# Altium footprint library WR-TBL_Rising Cage Clamp_5.08mm.PcbLib: 81 footprints (part 5 of 6)
Each footprint in its own frame and in the unit in brackets; x right, y up, seen from the top. Pads: shape width x height; smd on the part's side, far side on the other; paste and mask are expansions set on the pad; w line width, h text height; cw(c..) or ccw(c..) is an arc to the next point about the centre after c.
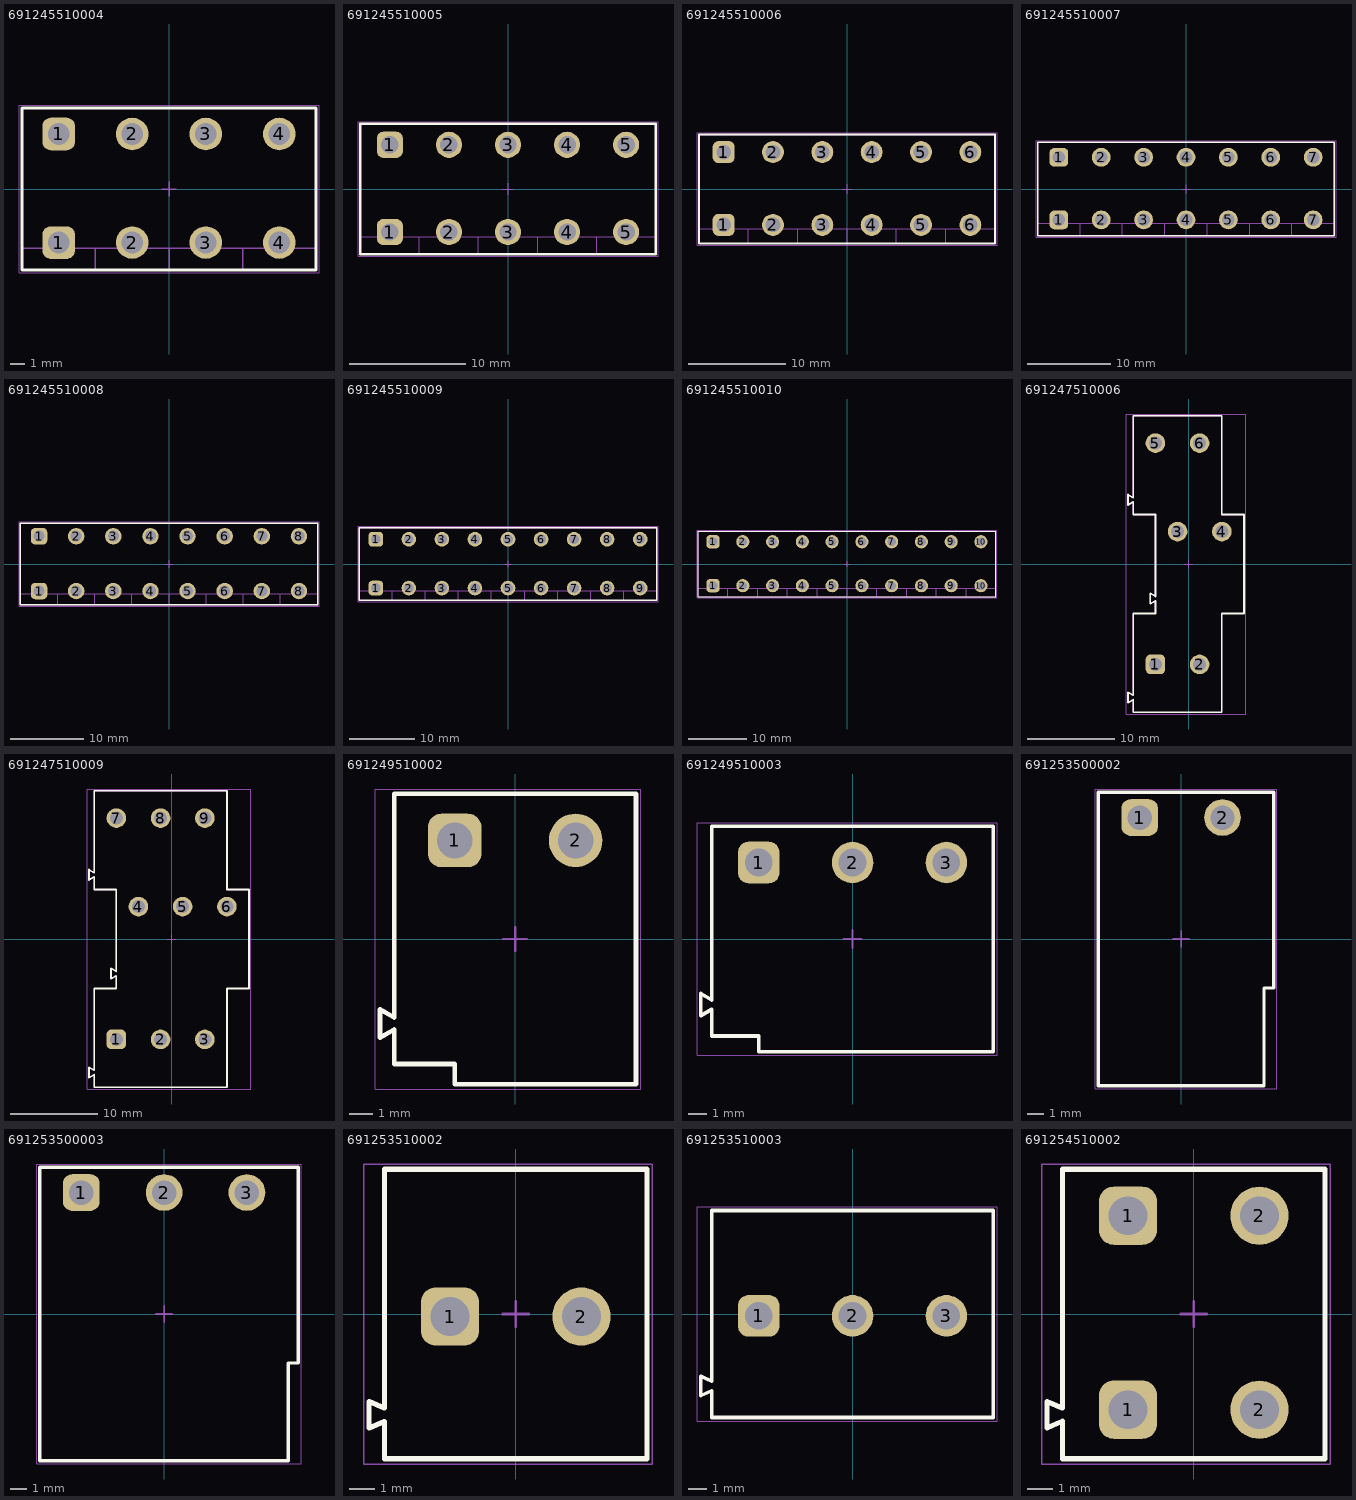
[diagram p4: the footprints below, top view; thin cyan lines are the x and y axes]

## 691245510004 [mm] "Serie 2455-5.08mm Horizontal Cable Entry with Rising Cage Clamp, 4 pins"
height 18
pads (8):
  rrect50% 2.25x2.25 hole 1.5: 1(-7.62,-3.7) 1(-7.62,3.8)
  round 2.25 hole 1.5: 2(-2.54,-3.7) 2(-2.54,3.8) 3(2.54,-3.7) 3(2.54,3.8) 4(7.62,-3.7) 4(7.62,3.8)
Top Overlay:
  lines w0.2: -10.16,-5.6 -10.16,5.6 10.16,5.6 10.16,-5.6 -10.16,-5.6
Top Assembly:
  lines w0.1: -10.16,-4.1 10.16,-4.1 ; -5.08,-5.6 -5.08,-4.1 ; 0,-5.6 0,-4.1 ; 5.08,-5.6 5.08,-4.1 ; -10.16,-5.6 10.16,-5.6 10.16,5.6 -10.16,5.6 -10.16,-5.6
Top Designator:
  text ".Designator" at -3.647,-0.357 h1
Top 3D Body:
  lines w0.1: -10.16,-4.1 10.16,-4.1 ; -5.08,-5.6 -5.08,-4.1 ; 0,-5.6 0,-4.1 ; 5.08,-5.6 5.08,-4.1 ; -10.16,-5.6 -10.16,5.6 10.16,5.6 10.16,-5.6 -10.16,-5.6
Top Courtyard:
  lines w0.05: -10.36,-5.8 -10.36,5.8 10.36,5.8 10.36,-5.8 -10.36,-5.8
Top Component Center:
  lines w0.1: -0.5,0 0.5,0 ; 0,-0.5 0,0.5
3D body "691245510004.stp": height 18.1, standoff -3.4, extent -10.16,-5.6 10.16,5.6

## 691245510005 [mm] "Serie 2455-5.08mm Horizontal Cable Entry with Rising Cage Clamp, 5 pins"
height 18
pads (10):
  rrect50% 2.25x2.25 hole 1.5: 1(-10.16,-3.7) 1(-10.16,3.8)
  round 2.25 hole 1.5: 2(-5.08,-3.7) 2(-5.08,3.8) 3(0,-3.7) 3(0,3.8) 4(5.08,-3.7) 4(5.08,3.8) 5(10.16,-3.7) 5(10.16,3.8)
Top Overlay:
  lines w0.2: -12.7,-5.6 -12.7,5.6 12.7,5.6 12.7,-5.6 -12.7,-5.6
Top Assembly:
  lines w0.1: -12.7,-4.1 12.7,-4.1 ; -7.62,-5.6 -7.62,-4.1 ; -2.54,-5.6 -2.54,-4.1 ; 2.54,-5.6 2.54,-4.1 ; 7.62,-5.6 7.62,-4.1 ; -12.7,-5.6 12.7,-5.6 12.7,5.6 -12.7,5.6 -12.7,-5.6
Top Designator:
  text ".Designator" at -3.647,-0.357 h1
Top 3D Body:
  lines w0.1: -12.7,-4.1 12.7,-4.1 ; -7.62,-5.6 -7.62,-4.1 ; -2.54,-5.6 -2.54,-4.1 ; 2.54,-5.6 2.54,-4.1 ; 7.62,-5.6 7.62,-4.1 ; -12.7,-5.6 -12.7,5.6 12.7,5.6 12.7,-5.6 -12.7,-5.6
Top Courtyard:
  lines w0.05: -12.9,-5.8 -12.9,5.8 12.9,5.8 12.9,-5.8 -12.9,-5.8
Top Component Center:
  lines w0.1: -0.5,0 0.5,0 ; 0,-0.5 0,0.5
3D body "691245510005.stp": height 18.1, standoff -3.4, extent -12.7,-5.6 12.7,5.6

## 691245510006 [mm] "Serie 2455-5.08mm Horizontal Cable Entry with Rising Cage Clamp, 6 pins"
height 18
pads (12):
  rrect50% 2.25x2.25 hole 1.5: 1(-12.7,-3.7) 1(-12.7,3.8)
  round 2.25 hole 1.5: 2(-7.62,-3.7) 2(-7.62,3.8) 3(-2.54,-3.7) 3(-2.54,3.8) 4(2.54,-3.7) 4(2.54,3.8) 5(7.62,-3.7) 5(7.62,3.8) 6(12.7,-3.7) 6(12.7,3.8)
Top Overlay:
  lines w0.2: -15.24,-5.6 15.24,-5.6 15.24,5.6 -15.24,5.6 -15.24,-5.6
Top Assembly:
  lines w0.1: -15.24,-4.1 15.24,-4.1 ; -10.16,-5.6 -10.16,-4.1 ; -5.08,-5.6 -5.08,-4.1 ; 0,-5.6 0,-4.1 ; 5.08,-5.6 5.08,-4.1 ; 10.16,-5.6 10.16,-4.1 ; -15.24,-5.6 -15.24,5.6 15.24,5.6 15.24,-5.6 -15.24,-5.6
Top Designator:
  text ".Designator" at -3.647,-0.357 h1
Top 3D Body:
  lines w0.1: -15.24,-4.1 15.24,-4.1 ; -10.16,-5.6 -10.16,-4.1 ; -5.08,-5.6 -5.08,-4.1 ; 0,-5.6 0,-4.1 ; 5.08,-5.6 5.08,-4.1 ; 10.16,-5.6 10.16,-4.1 ; -15.24,-5.6 15.24,-5.6 15.24,5.6 -15.24,5.6 -15.24,-5.6
Top Courtyard:
  lines w0.05: -15.44,-5.8 15.44,-5.8 15.44,5.8 -15.44,5.8 -15.44,-5.8
Top Component Center:
  lines w0.1: -0.5,0 0.5,0 ; 0,-0.5 0,0.5
3D body "691245510006.stp": height 18.1, standoff -3.4, extent -15.24,-5.6 15.24,5.6

## 691245510007 [mm] "Serie 2455-5.08mm Horizontal Cable Entry with Rising Cage Clamp, 7 pins"
height 18
pads (14):
  rrect50% 2.25x2.25 hole 1.5: 1(-15.24,-3.7) 1(-15.24,3.8)
  round 2.25 hole 1.5: 2(-10.16,-3.7) 2(-10.16,3.8) 3(-5.08,-3.7) 3(-5.08,3.8) 4(0,-3.7) 4(0,3.8) 5(5.08,-3.7) 5(5.08,3.8) 6(10.16,-3.7) 6(10.16,3.8) 7(15.24,-3.7) 7(15.24,3.8)
Top Overlay:
  lines w0.2: -17.78,-5.6 -17.78,5.6 17.78,5.6 17.78,-5.6 -17.78,-5.6
Top Assembly:
  lines w0.1: -17.78,-4.1 17.78,-4.1 ; -12.7,-5.6 -12.7,-4.1 ; -7.62,-5.6 -7.62,-4.1 ; -2.54,-5.6 -2.54,-4.1 ; 2.54,-5.6 2.54,-4.1 ; 7.62,-5.6 7.62,-4.1 ; 12.7,-5.6 12.7,-4.1 ; -17.78,-5.6 17.78,-5.6 17.78,5.6 -17.78,5.6 -17.78,-5.6
Top Designator:
  text ".Designator" at -3.647,-0.357 h1
Top 3D Body:
  lines w0.1: -17.78,-4.1 17.78,-4.1 ; -12.7,-5.6 -12.7,-4.1 ; -7.62,-5.6 -7.62,-4.1 ; -2.54,-5.6 -2.54,-4.1 ; 2.54,-5.6 2.54,-4.1 ; 7.62,-5.6 7.62,-4.1 ; 12.7,-5.6 12.7,-4.1 ; -17.78,-5.6 -17.78,5.6 17.78,5.6 17.78,-5.6 -17.78,-5.6
Top Courtyard:
  lines w0.05: -17.98,-5.8 -17.98,5.8 17.98,5.8 17.98,-5.8 -17.98,-5.8
Top Component Center:
  lines w0.1: -0.5,0 0.5,0 ; 0,-0.5 0,0.5
3D body "691245510007.stp": height 18.1, standoff -3.4, extent -17.78,-5.6 17.78,5.6

## 691245510008 [mm] "Serie 2455-5.08mm Horizontal Cable Entry with Rising Cage Clamp, 8 pins"
height 18
pads (16):
  rrect50% 2.25x2.25 hole 1.5: 1(-17.78,-3.7) 1(-17.78,3.8)
  round 2.25 hole 1.5: 2(-12.7,-3.7) 2(-12.7,3.8) 3(-7.62,-3.7) 3(-7.62,3.8) 4(-2.54,-3.7) 4(-2.54,3.8) 5(2.54,-3.7) 5(2.54,3.8) 6(7.62,-3.7) 6(7.62,3.8) 7(12.7,-3.7) 7(12.7,3.8) 8(17.78,-3.7) 8(17.78,3.8)
Top Overlay:
  lines w0.2: -20.32,-5.6 20.32,-5.6 20.32,5.6 -20.32,5.6 -20.32,-5.6
Top Assembly:
  lines w0.1: -20.32,-4.1 20.32,-4.1 ; -15.24,-5.6 -15.24,-4.1 ; -10.16,-5.6 -10.16,-4.1 ; -5.08,-5.6 -5.08,-4.1 ; 0,-5.6 0,-4.1 ; 5.08,-5.6 5.08,-4.1 ; 10.16,-5.6 10.16,-4.1 ; 15.24,-5.6 15.24,-4.1 ; -20.32,-5.6 -20.32,5.6 20.32,5.6 20.32,-5.6 -20.32,-5.6
Top Designator:
  text ".Designator" at -3.647,-0.357 h1
Top 3D Body:
  lines w0.1: -20.32,-4.1 20.32,-4.1 ; -15.24,-5.6 -15.24,-4.1 ; -10.16,-5.6 -10.16,-4.1 ; -5.08,-5.6 -5.08,-4.1 ; 0,-5.6 0,-4.1 ; 5.08,-5.6 5.08,-4.1 ; 10.16,-5.6 10.16,-4.1 ; 15.24,-5.6 15.24,-4.1 ; -20.32,-5.6 20.32,-5.6 20.32,5.6 -20.32,5.6 -20.32,-5.6
Top Courtyard:
  lines w0.05: -20.52,-5.8 20.52,-5.8 20.52,5.8 -20.52,5.8 -20.52,-5.8
Top Component Center:
  lines w0.1: -0.5,0 0.5,0 ; 0,-0.5 0,0.5
3D body "691245510008.stp": height 18.1, standoff -3.4, extent -20.32,-5.6 20.32,5.6

## 691245510009 [mm] "Serie 2455-5.08mm Horizontal Cable Entry with Rising Cage Clamp, 9 pins"
height 18
pads (18):
  rrect50% 2.25x2.25 hole 1.5: 1(-20.32,-3.7) 1(-20.32,3.8)
  round 2.25 hole 1.5: 2(-15.24,-3.7) 2(-15.24,3.8) 3(-10.16,-3.7) 3(-10.16,3.8) 4(-5.08,-3.7) 4(-5.08,3.8) 5(0,-3.7) 5(0,3.8) 6(5.08,-3.7) 6(5.08,3.8) 7(10.16,-3.7) 7(10.16,3.8) 8(15.24,-3.7) 8(15.24,3.8) 9(20.32,-3.7) 9(20.32,3.8)
Top Overlay:
  lines w0.2: -22.86,-5.6 -22.86,5.6 22.86,5.6 22.86,-5.6 -22.86,-5.6
Top Assembly:
  lines w0.1: -22.86,-4.1 22.86,-4.1 ; -17.78,-5.6 -17.78,-4.1 ; -12.7,-5.6 -12.7,-4.1 ; -7.62,-5.6 -7.62,-4.1 ; -2.54,-5.6 -2.54,-4.1 ; 2.54,-5.6 2.54,-4.1 ; 7.62,-5.6 7.62,-4.1 ; 12.7,-5.6 12.7,-4.1 ; 17.78,-5.6 17.78,-4.1 ; -22.86,-5.6 22.86,-5.6 22.86,5.6 -22.86,5.6 -22.86,-5.6
Top Designator:
  text ".Designator" at -3.647,-0.357 h1
Top 3D Body:
  lines w0.1: -22.86,-4.1 22.86,-4.1 ; -17.78,-5.6 -17.78,-4.1 ; -12.7,-5.6 -12.7,-4.1 ; -7.62,-5.6 -7.62,-4.1 ; -2.54,-5.6 -2.54,-4.1 ; 2.54,-5.6 2.54,-4.1 ; 7.62,-5.6 7.62,-4.1 ; 12.7,-5.6 12.7,-4.1 ; 17.78,-5.6 17.78,-4.1 ; -22.86,-5.6 -22.86,5.6 22.86,5.6 22.86,-5.6 -22.86,-5.6
Top Courtyard:
  lines w0.05: -23.06,-5.8 -23.06,5.8 23.06,5.8 23.06,-5.8 -23.06,-5.8
Top Component Center:
  lines w0.1: -0.5,0 0.5,0 ; 0,-0.5 0,0.5
3D body "691245510009.stp": height 18.1, standoff -3.4, extent -22.86,-5.6 22.86,5.6

## 691245510010 [mm] "Serie 2455-5.08mm Horizontal Cable Entry with Rising Cage Clamp, 10 pins"
height 18
pads (20):
  rrect50% 2.25x2.25 hole 1.5: 1(-22.86,-3.7) 1(-22.86,3.8)
  round 2.25 hole 1.5: 2(-17.78,-3.7) 2(-17.78,3.8) 3(-12.7,-3.7) 3(-12.7,3.8) 4(-7.62,-3.7) 4(-7.62,3.8) 5(-2.54,-3.7) 5(-2.54,3.8) 6(2.54,-3.7) 6(2.54,3.8) 7(7.62,-3.7) 7(7.62,3.8) 8(12.7,-3.7) 8(12.7,3.8) 9(17.78,-3.7) 9(17.78,3.8) 10(22.86,-3.7) 10(22.86,3.8)
Top Overlay:
  lines w0.2: -25.4,-5.6 25.4,-5.6 25.4,5.6 -25.4,5.6 -25.4,-5.6
Top Assembly:
  lines w0.1: -25.4,-4.1 25.4,-4.1 ; -20.32,-5.6 -20.32,-4.1 ; -15.24,-5.6 -15.24,-4.1 ; -10.16,-5.6 -10.16,-4.1 ; -5.08,-5.6 -5.08,-4.1 ; 0,-5.6 0,-4.1 ; 5.08,-5.6 5.08,-4.1 ; 10.16,-5.6 10.16,-4.1 ; 15.24,-5.6 15.24,-4.1 ; 20.32,-5.6 20.32,-4.1 ; -25.4,-5.6 -25.4,5.6 25.4,5.6 25.4,-5.6 -25.4,-5.6
Top Designator:
  text ".Designator" at -3.647,-0.357 h1
Top 3D Body:
  lines w0.1: -25.4,-4.1 25.4,-4.1 ; -20.32,-5.6 -20.32,-4.1 ; -15.24,-5.6 -15.24,-4.1 ; -10.16,-5.6 -10.16,-4.1 ; -5.08,-5.6 -5.08,-4.1 ; 0,-5.6 0,-4.1 ; 5.08,-5.6 5.08,-4.1 ; 10.16,-5.6 10.16,-4.1 ; 15.24,-5.6 15.24,-4.1 ; 20.32,-5.6 20.32,-4.1 ; -25.4,-5.6 25.4,-5.6 25.4,5.6 -25.4,5.6 -25.4,-5.6
Top Courtyard:
  lines w0.05: -25.6,-5.8 25.6,-5.8 25.6,5.8 -25.6,5.8 -25.6,-5.8
Top Component Center:
  lines w0.1: -0.5,0 0.5,0 ; 0,-0.5 0,0.5
3D body "691245510010.stp": height 18.1, standoff -3.4, extent -25.4,-5.6 25.4,5.6

## 691247510006 [mm] "5.08mm Horizontal Cable Entry with Rising Cage Clamp, 06p"
height 45
pads (6):
  rrect50% 2.25x2.25 hole 1.5: 1(-3.81,-11.525)
  round 2.25 hole 1.5: 2(1.27,-11.525) 3(-1.27,3.715) 4(3.81,3.715) 5(-3.81,13.875) 6(1.27,13.875)
Top Overlay:
  lines w0.2: -6.352,-15.572 -6.95,-15.925 -6.95,-14.725 -6.352,-15.078 ; -6.352,7.128 -6.95,6.775 -6.95,7.975 -6.352,7.622 ; -6.35,-15.575 -6.35,-17.025 3.81,-17.025 3.81,-5.675 6.35,-5.675 6.35,5.675 3.81,5.675 3.81,17.025 -6.35,17.025 -6.35,7.624 ; -6.35,-15.076 -6.35,-5.675 -3.81,-5.675 -3.81,-4.225 ; -6.35,7.125 -6.35,5.675 -3.81,5.675 -3.81,-3.726 ; -3.812,-4.222 -4.41,-4.575 -4.41,-3.375 -3.812,-3.728
Top Assembly:
  lines w0.1: -6.352,-15.572 -6.95,-15.925 -6.95,-14.725 -6.352,-15.078 ; -6.352,7.128 -6.95,6.775 -6.95,7.975 -6.352,7.622 ; -6.35,-15.575 -6.35,-17.025 3.81,-17.025 3.81,-5.675 6.35,-5.675 6.35,5.675 3.81,5.675 3.81,17.025 -6.35,17.025 -6.35,7.624 ; -6.35,-15.076 -6.35,-5.675 -3.81,-5.675 -3.81,-4.225 ; -6.35,7.125 -6.35,5.675 -3.81,5.675 -3.81,-3.726 ; -3.812,-4.222 -4.41,-4.575 -4.41,-3.375 -3.812,-3.728
Top Designator:
  text ".Designator" at -3.647,-0.357 h1
Top 3D Body:
  lines w0.1: -6.352,-15.572 -6.95,-15.925 -6.95,-14.725 -6.352,-15.078 ; -6.352,7.128 -6.95,6.775 -6.95,7.975 -6.352,7.622 ; -6.35,-15.575 -6.35,-17.025 3.81,-17.025 3.81,-5.675 6.35,-5.675 6.35,5.675 3.81,5.675 3.81,17.025 -6.35,17.025 -6.35,7.624 ; -6.35,-15.076 -6.35,-5.675 -3.81,-5.675 -3.81,-4.225 ; -6.35,7.125 -6.35,5.675 -3.81,5.675 -3.81,-3.726 ; -3.812,-4.222 -4.41,-4.575 -4.41,-3.375 -3.812,-3.728
Top Courtyard:
  lines w0.05: -7.15,-17.225 -7.15,17.225 6.55,17.225 6.55,-17.225 -7.15,-17.225
Top Component Center:
  lines w0.1: -0.5,0 0.5,0 ; 0,-0.5 0,0.5
3D body "691247510006.stp": height 45.1, standoff -3.9, extent -6.95,-17.025 6.35,17.025

## 691247510009 [mm] "5.08mm Horizontal Cable Entry with Rising Cage Clamp, 09p"
height 45
pads (9):
  rrect50% 2.25x2.25 hole 1.5: 1(-6.35,-11.525)
  round 2.25 hole 1.5: 2(-1.27,-11.525) 3(3.81,-11.525) 4(-3.81,3.715) 5(1.27,3.715) 6(6.35,3.715) 7(-6.35,13.875) 8(-1.27,13.875) 9(3.81,13.875)
Top Overlay:
  lines w0.2: -8.892,-15.572 -9.49,-15.925 -9.49,-14.725 -8.892,-15.078 ; -8.892,7.128 -9.49,6.775 -9.49,7.975 -8.892,7.622 ; -8.89,-15.575 -8.89,-17.025 6.35,-17.025 6.35,-5.675 8.89,-5.675 8.89,5.675 6.35,5.675 6.35,17.025 -8.89,17.025 -8.89,7.624 ; -8.89,-15.076 -8.89,-5.675 -6.35,-5.675 -6.35,-4.225 ; -8.89,7.125 -8.89,5.675 -6.35,5.675 -6.35,-3.726 ; -6.352,-4.222 -6.95,-4.575 -6.95,-3.375 -6.352,-3.728
Top Assembly:
  lines w0.1: -8.892,-15.572 -9.49,-15.925 -9.49,-14.725 -8.892,-15.078 ; -8.892,7.128 -9.49,6.775 -9.49,7.975 -8.892,7.622 ; -8.89,-15.575 -8.89,-17.025 6.35,-17.025 6.35,-5.675 8.89,-5.675 8.89,5.675 6.35,5.675 6.35,17.025 -8.89,17.025 -8.89,7.624 ; -8.89,-15.076 -8.89,-5.675 -6.35,-5.675 -6.35,-4.225 ; -8.89,7.125 -8.89,5.675 -6.35,5.675 -6.35,-3.726 ; -6.352,-4.222 -6.95,-4.575 -6.95,-3.375 -6.352,-3.728
Top Designator:
  text ".Designator" at -3.647,-0.357 h1
Top 3D Body:
  lines w0.1: -8.892,-15.572 -9.49,-15.925 -9.49,-14.725 -8.892,-15.078 ; -8.892,7.128 -9.49,6.775 -9.49,7.975 -8.892,7.622 ; -8.89,-15.575 -8.89,-17.025 6.35,-17.025 6.35,-5.675 8.89,-5.675 8.89,5.675 6.35,5.675 6.35,17.025 -8.89,17.025 -8.89,7.624 ; -8.89,-15.076 -8.89,-5.675 -6.35,-5.675 -6.35,-4.225 ; -8.89,7.125 -8.89,5.675 -6.35,5.675 -6.35,-3.726 ; -6.352,-4.222 -6.95,-4.575 -6.95,-3.375 -6.352,-3.728
Top Courtyard:
  lines w0.05: -9.69,-17.225 9.09,-17.225 9.09,17.225 -9.69,17.225 -9.69,-17.225
Top Component Center:
  lines w0.1: -0.5,0 0.5,0 ; 0,-0.5 0,0.5
3D body "691247510009.stp": height 45.1, standoff -3.9, extent -9.49,-17.025 8.89,17.025

## 691249510002 [mm] "5.08mm Horizontal Cable Entry with Rising Cage Clamp, 02p"
height 31.5
pads (2):
  rrect50% 2.25x2.25 hole 1.5: 1(-2.54,4.14)
  round 2.25 hole 1.5: 2(2.54,4.14)
Top Overlay:
  lines w0.2: -5.081,-3.798 -5.68,-4.15 -5.68,-2.95 -5.081,-3.302 ; -5.08,-3.8 -5.08,-5.25 -2.54,-5.25 -2.54,-6.1 5.08,-6.1 5.08,6.1 -5.08,6.1 -5.08,-3.301
Top Assembly:
  lines w0.1: -5.081,-3.798 -5.68,-4.15 -5.68,-2.95 -5.081,-3.302 ; -5.08,-3.8 -5.08,-5.25 -2.54,-5.25 -2.54,-6.1 5.08,-6.1 5.08,6.1 -5.08,6.1 -5.08,-3.301
Top Designator:
  text ".Designator" at -3.647,-0.357 h1
Top 3D Body:
  lines w0.1: -5.081,-3.798 -5.68,-4.15 -5.68,-2.95 -5.081,-3.302 ; -5.08,-3.8 -5.08,-5.25 -2.54,-5.25 -2.54,-6.1 5.08,-6.1 5.08,6.1 -5.08,6.1 -5.08,-3.301
Top Courtyard:
  lines w0.05: -5.88,-6.3 5.28,-6.3 5.28,6.3 -5.88,6.3 -5.88,-6.3
Top Component Center:
  lines w0.1: -0.5,0 0.5,0 ; 0,-0.5 0,0.5
3D body "691249510002.stp": height 31.6, standoff -3.9, extent -5.68,-6.1 5.08,6.1

## 691249510003 [mm] "5.08mm Horizontal Cable Entry with Rising Cage Clamp, 03p"
height 31.5
pads (3):
  rrect50% 2.25x2.25 hole 1.5: 1(-5.08,4.14)
  round 2.25 hole 1.5: 2(0,4.14) 3(5.08,4.14)
Top Overlay:
  lines w0.2: -7.621,-3.798 -8.22,-4.15 -8.22,-2.95 -7.621,-3.302 ; -7.62,-3.8 -7.62,-5.25 -5.08,-5.25 -5.08,-6.1 7.62,-6.1 7.62,6.1 -7.62,6.1 -7.62,-3.301
Top Assembly:
  lines w0.1: -7.621,-3.798 -8.22,-4.15 -8.22,-2.95 -7.621,-3.302 ; -7.62,-3.8 -7.62,-5.25 -5.08,-5.25 -5.08,-6.1 7.62,-6.1 7.62,6.1 -7.62,6.1 -7.62,-3.301
Top Designator:
  text ".Designator" at -3.647,-0.357 h1
Top 3D Body:
  lines w0.1: -7.621,-3.798 -8.22,-4.15 -8.22,-2.95 -7.621,-3.302 ; -7.62,-3.8 -7.62,-5.25 -5.08,-5.25 -5.08,-6.1 7.62,-6.1 7.62,6.1 -7.62,6.1 -7.62,-3.301
Top Courtyard:
  lines w0.05: -8.42,-6.3 7.82,-6.3 7.82,6.3 -8.42,6.3 -8.42,-6.3
Top Component Center:
  lines w0.1: -0.5,0 0.5,0 ; 0,-0.5 0,0.5
3D body "691249510003.stp": height 31.6, standoff -3.9, extent -8.22,-6.1 7.62,6.1

## 691253500002 [mm] "Serie 2535 - 5.08 mm _ 2 pins"
height 11.2
pads (2):
  rrect50% 2.25x2.25 hole 1.5: 1(-2.54,7.45)
  round 2.25 hole 1.5: 2(2.54,7.45)
Top Overlay:
  lines w0.2: -5.08,-9 5.08,-9 5.08,-3 5.68,-3 5.68,9 -5.08,9 -5.08,-9
Top Assembly:
  lines w0.1: -5.08,-9 -5.08,9 5.68,9 5.68,-3 5.08,-3 5.08,-9 -5.08,-9
Top Designator:
  text ".Designator" at -3.647,-0.357 h1
Top 3D Body:
  lines w0.1: -5.08,-9 5.08,-9 5.08,-3 5.68,-3 5.68,9 -5.08,9 -5.08,-9
Top Courtyard:
  lines w0.05: -5.28,-9.2 -5.28,9.2 5.88,9.2 5.88,-9.2 -5.28,-9.2
Top Component Center:
  lines w0.1: -0.5,0 0.5,0 ; 0,-0.5 0,0.5
3D body "691253500002.stp": height 11.35, standoff -3.85, extent -5.06,-9.05 5.7,8.95

## 691253500003 [mm] "Serie 2535 - 5.08 mm _ 3 pins"
height 11.2
pads (3):
  rrect50% 2.25x2.25 hole 1.5: 1(-5.08,7.45)
  round 2.25 hole 1.5: 2(0,7.45) 3(5.08,7.45)
Top Overlay:
  lines w0.2: -7.62,-9 7.62,-9 7.62,-3 8.22,-3 8.22,9 -7.62,9 -7.62,-9
Top Assembly:
  lines w0.1: -7.62,-9 -7.62,9 8.22,9 8.22,-3 7.62,-3 7.62,-9 -7.62,-9
Top Designator:
  text ".Designator" at -3.647,-0.357 h1
Top 3D Body:
  lines w0.1: -7.62,-9 7.62,-9 7.62,-3 8.22,-3 8.22,9 -7.62,9 -7.62,-9
Top Courtyard:
  lines w0.05: -7.82,-9.2 -7.82,9.2 8.42,9.2 8.42,-9.2 -7.82,-9.2
Top Component Center:
  lines w0.1: -0.5,0 0.5,0 ; 0,-0.5 0,0.5
3D body "691253500003.stp": height 11.35, standoff -3.85, extent -7.6,-9.05 8.24,8.95

## 691253510002 [mm] "Serie 2535 - 5.08 mm _ 2 pins"
height 18
pads (2):
  rrect50% 2.25x2.25 hole 1.5: 1(-2.54,-0.1)
  round 2.25 hole 1.5: 2(2.54,-0.1)
Top Overlay:
  lines w0.2: -5.67,-4.41 -5.08,-4.154 -5.08,-5.6 5.08,-5.6 5.08,5.6 -5.08,5.6 -5.08,-3.636 -5.67,-3.38 -5.67,-4.41
Top Assembly:
  lines w0.1: -5.67,-4.41 -5.67,-3.38 -5.08,-3.636 -5.08,5.6 5.08,5.6 5.08,-5.6 -5.08,-5.6 -5.08,-4.154 -5.67,-4.41
Top Designator:
  text ".Designator" at -3.647,-0.357 h1
Top 3D Body:
  lines w0.1: -5.67,-4.41 -5.08,-4.154 -5.08,-5.6 5.08,-5.6 5.08,5.6 -5.08,5.6 -5.08,-3.636 -5.67,-3.38 -5.67,-4.41
Top Courtyard:
  lines w0.05: -5.88,-5.8 -5.88,5.8 5.28,5.8 5.28,-5.8 -5.88,-5.8
Top Component Center:
  lines w0.1: -0.5,0 0.5,0 ; 0,-0.5 0,0.5
3D body "691253510002.stp": height 18.1, standoff -3.9, extent -5.67,-5.6 5.09,5.6

## 691253510003 [mm] "Serie 2535 - 5.08 mm _ 3 pins"
height 18
pads (3):
  rrect50% 2.25x2.25 hole 1.5: 1(-5.08,-0.1)
  round 2.25 hole 1.5: 2(0,-0.1) 3(5.08,-0.1)
Top Overlay:
  lines w0.2: -8.21,-4.41 -7.62,-4.154 -7.62,-5.6 7.62,-5.6 7.62,5.6 -7.62,5.6 -7.62,-3.636 -8.21,-3.38 -8.21,-4.41
Top Assembly:
  lines w0.1: -8.21,-4.41 -8.21,-3.38 -7.62,-3.636 -7.62,5.6 7.62,5.6 7.62,-5.6 -7.62,-5.6 -7.62,-4.154 -8.21,-4.41
Top Designator:
  text ".Designator" at -3.647,-0.357 h1
Top 3D Body:
  lines w0.1: -8.21,-4.41 -7.62,-4.154 -7.62,-5.6 7.62,-5.6 7.62,5.6 -7.62,5.6 -7.62,-3.636 -8.21,-3.38 -8.21,-4.41
Top Courtyard:
  lines w0.05: -8.42,-5.8 -8.42,5.8 7.82,5.8 7.82,-5.8 -8.42,-5.8
Top Component Center:
  lines w0.1: -0.5,0 0.5,0 ; 0,-0.5 0,0.5
3D body "691253510003.stp": height 18.1, standoff -3.9, extent -8.21,-5.6 7.63,5.6

## 691254510002 [mm] "Serie 2545-5.08mm Horizontal Cable Entry with Rising Cage Clamp, 2 pins"
height 18
pads (4):
  rrect50% 2.25x2.25 hole 1.5: 1(-2.54,-3.7) 1(-2.54,3.8)
  round 2.25 hole 1.5: 2(2.54,-3.7) 2(2.54,3.8)
Top Overlay:
  lines w0.2: -5.08,-5.6 -5.08,-4.15 -5.68,-4.41 -5.68,-3.38 -5.08,-3.64 -5.08,5.6 5.08,5.6 5.08,-5.6 -5.08,-5.6
Top Assembly:
  lines w0.1: -5.08,-5.6 -5.08,-4.15 -5.68,-4.41 -5.68,-3.38 -5.08,-3.64 -5.08,5.6 5.08,5.6 5.08,-5.6 -5.08,-5.6
Top Designator:
  text ".Designator" at -3.647,-0.357 h1
Top 3D Body:
  lines w0.1: -5.08,-5.6 -5.08,-4.15 -5.68,-4.41 -5.68,-3.38 -5.08,-3.64 -5.08,5.6 5.08,5.6 5.08,-5.6 -5.08,-5.6
Top Courtyard:
  lines w0.05: -5.88,-5.8 5.28,-5.8 5.28,5.8 -5.88,5.8 -5.88,-5.8
Top Component Center:
  lines w0.1: -0.5,0 0.5,0 ; 0,-0.5 0,0.5
3D body "691254510002.stp": height 18.1, standoff -3.4, extent -5.68,-5.6 5.08,5.6